# Altium footprint library LT1117CST-5&hash_PBF.PcbLib: 3 footprints
Each footprint in its own frame and in the unit in brackets; x right, y up, seen from the top. Pads: shape width x height; smd on the part's side, far side on the other; paste and mask are expansions set on the pad; w line width, h text height; cw(c..) or ccw(c..) is an arc to the next point about the centre after c.
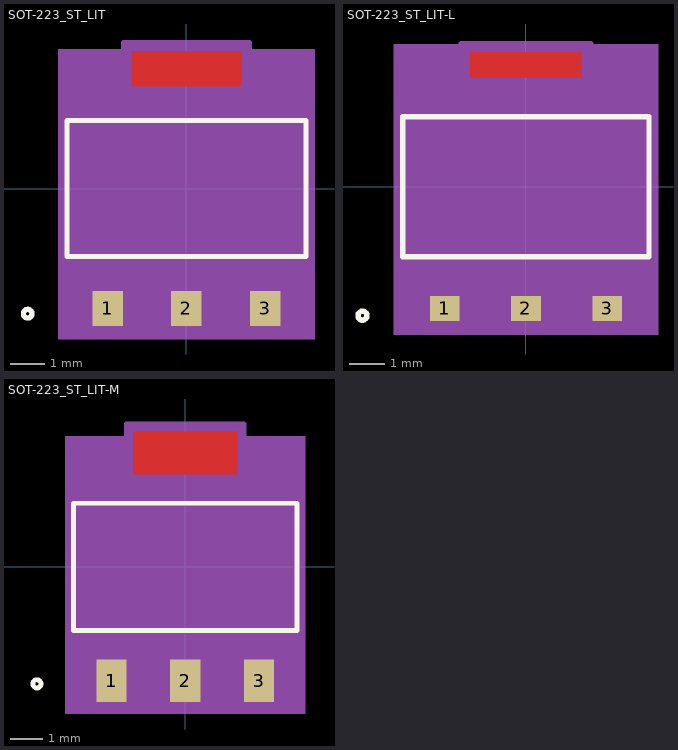
[diagram p0: the footprints below, top view; thin cyan lines are the x and y axes]

## SOT-223_ST_LIT [mil]
pads (3):
  rect 35x40 smd paste+0 mask+0: 1(-90.5,-137.5) 2(0,-137.5) 3(90.5,-137.5)
Top Layer:
  region: 63,117.5 63,157.5 -63,157.5 -63,117.5
Top Overlay:
  circle w6: c-182,-143.5 r5
  lines w6: -137,-78 137,-78 137,78 -137,78 -137,-78
Top Paste:
  region: 63,117.5 63,157.5 -63,157.5 -63,117.5
Top Solder:
  region: 64,103.5 64,171.5 -64,171.5 -64,103.5
Mechanical 5:
  region: -147,159.5 147,159.5 147,-172.5 -147,-172.5
Mechanical 13:
  circle w0: c-122,-63 r5
  lines w1: -132,-73 132,-73 132,73 -132,73 -132,-73 ; -107,-143.5 -107,-73 -74,-73 -74,-143.5 -107,-143.5 ; -62,73 62,73 62,143.5 -62,143.5 -62,73 ; -16.5,-143.5 -16.5,-73 16.5,-73 16.5,-143.5 -16.5,-143.5 ; 74,-143.5 74,-73 107,-73 107,-143.5 74,-143.5
Mechanical 15:
  region: -142,-83 -142,83 -72,83 -72,167.5 72,167.5 72,83 142,83 142,-83 117,-83 117,-167.5 -117,-167.5 -117,-83
  lines w6: -142,-83 -142,83 -72,83 -72,167.5 72,167.5 72,83 142,83 142,-83 117,-83 117,-167.5 -117,-167.5 -117,-83 -142,-83
3D body "SOT-223_ST_LIT.step": height 71.1, standoff 0, extent -132.01,-143.5 132.01,143.5

## SOT-223_ST_LIT-L [mil]
pads (3):
  rect 33x28 smd paste+0 mask+0: 1(-90.5,-135.5) 2(0,-135.5) 3(90.5,-135.5)
Top Layer:
  region: 62,121.5 62,149.5 -62,149.5 -62,121.5
Top Overlay:
  circle w6: c-182,-143.5 r5
  lines w6: -137,-78 137,-78 137,78 -137,78 -137,-78
Top Paste:
  region: 62,121.5 62,149.5 -62,149.5 -62,121.5
Top Solder:
  region: 62,111.5 62,155.5 -62,155.5 -62,111.5
Mechanical 5:
  region: -147,158.5 147,158.5 147,-164.5 -147,-164.5
Mechanical 13:
  circle w0: c-122,-63 r5
  lines w1: -132,-73 132,-73 132,73 -132,73 -132,-73 ; -107,-143.5 -107,-73 -74,-73 -74,-143.5 -107,-143.5 ; -62,73 62,73 62,143.5 -62,143.5 -62,73 ; -16.5,-143.5 -16.5,-73 16.5,-73 16.5,-143.5 -16.5,-143.5 ; 74,-143.5 74,-73 107,-73 107,-143.5 74,-143.5
Mechanical 15:
  region: -142,-83 -142,83 -72,83 -72,159.5 72,159.5 72,83 142,83 142,-83 117,-83 117,-159.5 -117,-159.5 -117,-83
  lines w6: -142,-83 -142,83 -72,83 -72,159.5 72,159.5 72,83 142,83 142,-83 117,-83 117,-159.5 -117,-159.5 -117,-83 -142,-83
3D body "SOT-223_ST_LIT.step": height 71.1, standoff 0, extent -132.01,-143.5 132.01,143.5

## SOT-223_ST_LIT-M [mil]
pads (3):
  rect 37x52 smd paste+0 mask+0: 1(-90.5,-139.5) 2(0,-139.5) 3(90.5,-139.5)
Top Layer:
  region: 64,113.5 64,165.5 -64,165.5 -64,113.5
Top Overlay:
  circle w6: c-182,-143.5 r5
  lines w6: -137,-78 137,-78 137,78 -137,78 -137,-78
Top Paste:
  region: 64,113.5 64,165.5 -64,165.5 -64,113.5
Top Solder:
  region: 66,95.5 66,187.5 -66,187.5 -66,95.5
Mechanical 5:
  region: -147,160.5 147,160.5 147,-180.5 -147,-180.5
Mechanical 13:
  circle w0: c-122,-63 r5
  lines w1: -132,-73 132,-73 132,73 -132,73 -132,-73 ; -107,-143.5 -107,-73 -74,-73 -74,-143.5 -107,-143.5 ; -62,73 62,73 62,143.5 -62,143.5 -62,73 ; -16.5,-143.5 -16.5,-73 16.5,-73 16.5,-143.5 -16.5,-143.5 ; 74,-143.5 74,-73 107,-73 107,-143.5 74,-143.5
Mechanical 15:
  region: -142,-83 -142,83 -72,83 -72,175.5 72,175.5 72,83 142,83 142,-83 117,-83 117,-175.5 -117,-175.5 -117,-83
  lines w6: -142,-83 -142,83 -72,83 -72,175.5 72,175.5 72,83 142,83 142,-83 117,-83 117,-175.5 -117,-175.5 -117,-83 -142,-83
3D body "SOT-223_ST_LIT.step": height 71.1, standoff 0, extent -132.01,-143.5 132.01,143.5